# Altium schematic symbol library NDK CRYSTAL NX8045GB.SchLib: 1 symbol
Pins are listed as number, name and electrical type; pins without a type are passive.

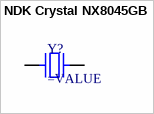
[diagram p0: symbol NDK Crystal NX8045GB]

## NDK Crystal NX8045GB
designator Y?
SMT Crystal
pins: 1, 2